# EAGLE library part XC18V00/44 (library Xilinx)
Xilinx XC18V00 Series Configuration PROM
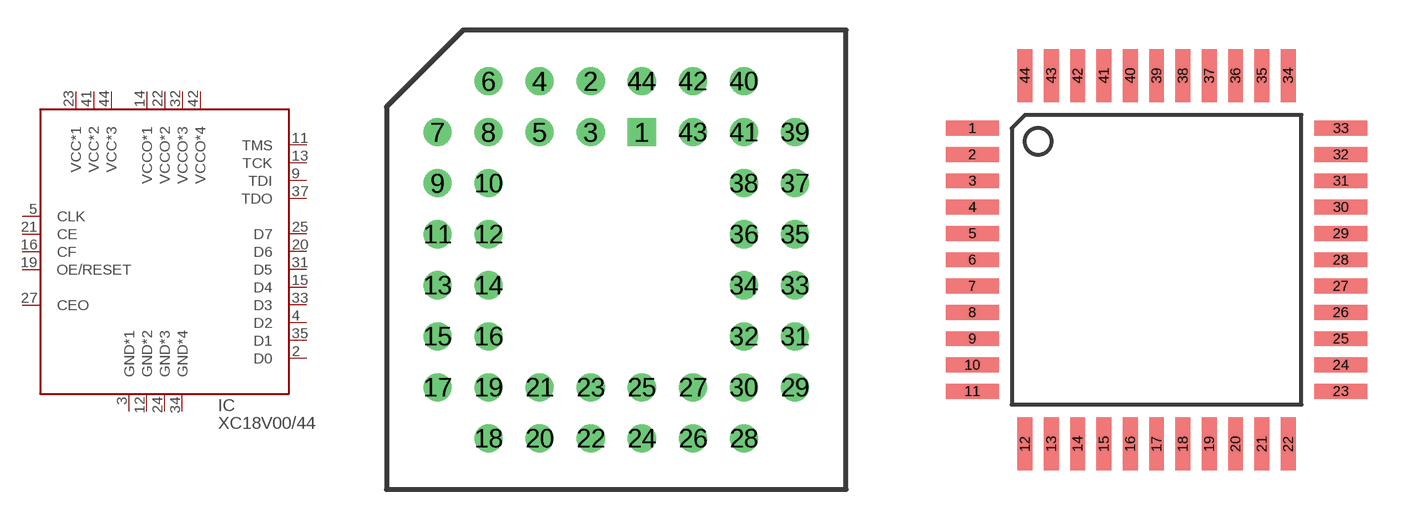
[diagram p16: symbol with the pads of PLCC-44T; footprints PLCC-44T, VQ44]

Designator prefix IC

## XC18V00/44-PC44  [PLCC-44T]
2  D0
3  GND*1
4  D2
5  CLK
9  TDI
11  TMS
12  GND*2
13  TCK
14  VCCO*1
15  D4
16  CF
19  OE/RESET
20  D6
21  CE
22  VCCO*2
23  VCC*1
24  GND*3
25  D7
27  CEO
31  D5
32  VCCO*3
33  D3
34  GND*4
35  D1
37  TDO
41  VCC*2
42  VCCO*4
44  VCC*3

## XC18V00/44-VQ44  [VQ44]
3  TDI
5  TMS
6  GND*1
7  TCK
8  VCCO*1
9  D4
10  CF
13  OE/RESET
14  D6
15  CE
16  VCCO*2
17  VCC*1
18  GND*2
19  D7
21  CEO
25  D5
26  VCCO*3
27  D3
28  GND*3
29  D1
31  TDO
35  VCC*2
36  VCCO*4
38  VCC*3
40  D0
41  GND*4
42  D2
43  CLK

## Footprint PLCC-44T (pad centres in mm)
44 pin PLCC, through hole socket
drill 0.889 square: 1 1.27,6.35
drill 0.889 round: 2 -1.27,8.89; 3 -1.27,6.35; 4 -3.81,8.89; 5 -3.81,6.35; 6 -6.35,8.89; 7 -8.89,6.35; 8 -6.35,6.35; 9 -8.89,3.81; 10 -6.35,3.81; 11 -8.89,1.27; 12 -6.35,1.27; 13 -8.89,-1.27; 14 -6.35,-1.27; 15 -8.89,-3.81; 16 -6.35,-3.81; 17 -8.89,-6.35; 18 -6.35,-8.89; 19 -6.35,-6.35; 20 -3.81,-8.89; 21 -3.81,-6.35; 22 -1.27,-8.89; 23 -1.27,-6.35; 24 1.27,-8.89; 25 1.27,-6.35; 26 3.81,-8.89; 27 3.81,-6.35; 28 6.35,-8.89; 29 8.89,-6.35; 30 6.35,-6.35; 31 8.89,-3.81; 32 6.35,-3.81; 33 8.89,-1.27; 34 6.35,-1.27; 35 8.89,1.27; 36 6.35,1.27; 37 8.89,3.81; 38 6.35,3.81; 39 8.89,6.35; 40 6.35,8.89; 41 6.35,6.35; 42 3.81,8.89; 43 3.81,6.35; 44 1.27,8.89

## Footprint VQ44 (pad centres in mm)
VQFP 44
smd 1.6 x 0.45: 1 -5.6,4; 2 -5.6,3.2; 3 -5.6,2.4; 4 -5.6,1.6; 5 -5.6,0.8; 6 -5.6,0; 7 -5.6,-0.8; 8 -5.6,-1.6; 9 -5.6,-2.4; 10 -5.6,-3.2; 11 -5.6,-4; 23 5.6,-4; 24 5.6,-3.2; 25 5.6,-2.4; 26 5.6,-1.6; 27 5.6,-0.8; 28 5.6,0; 29 5.6,0.8; 30 5.6,1.6; 31 5.6,2.4; 32 5.6,3.2; 33 5.6,4
smd 0.45 x 1.6: 12 -4,-5.6; 13 -3.2,-5.6; 14 -2.4,-5.6; 15 -1.6,-5.6; 16 -0.8,-5.6; 17 0,-5.6; 18 0.8,-5.6; 19 1.6,-5.6; 20 2.4,-5.6; 21 3.2,-5.6; 22 4,-5.6; 34 4,5.6; 35 3.2,5.6; 36 2.4,5.6; 37 1.6,5.6; 38 0.8,5.6; 39 0,5.6; 40 -0.8,5.6; 41 -1.6,5.6; 42 -2.4,5.6; 43 -3.2,5.6; 44 -4,5.6